# Altium footprint library GRC PCB library.PcbLib: 166 footprints (part 8 of 11)
Each footprint in its own frame and in the unit in brackets; x right, y up, seen from the top. Pads: shape width x height; smd on the part's side, far side on the other; paste and mask are expansions set on the pad; w line width, h text height; cw(c..) or ccw(c..) is an arc to the next point about the centre after c.
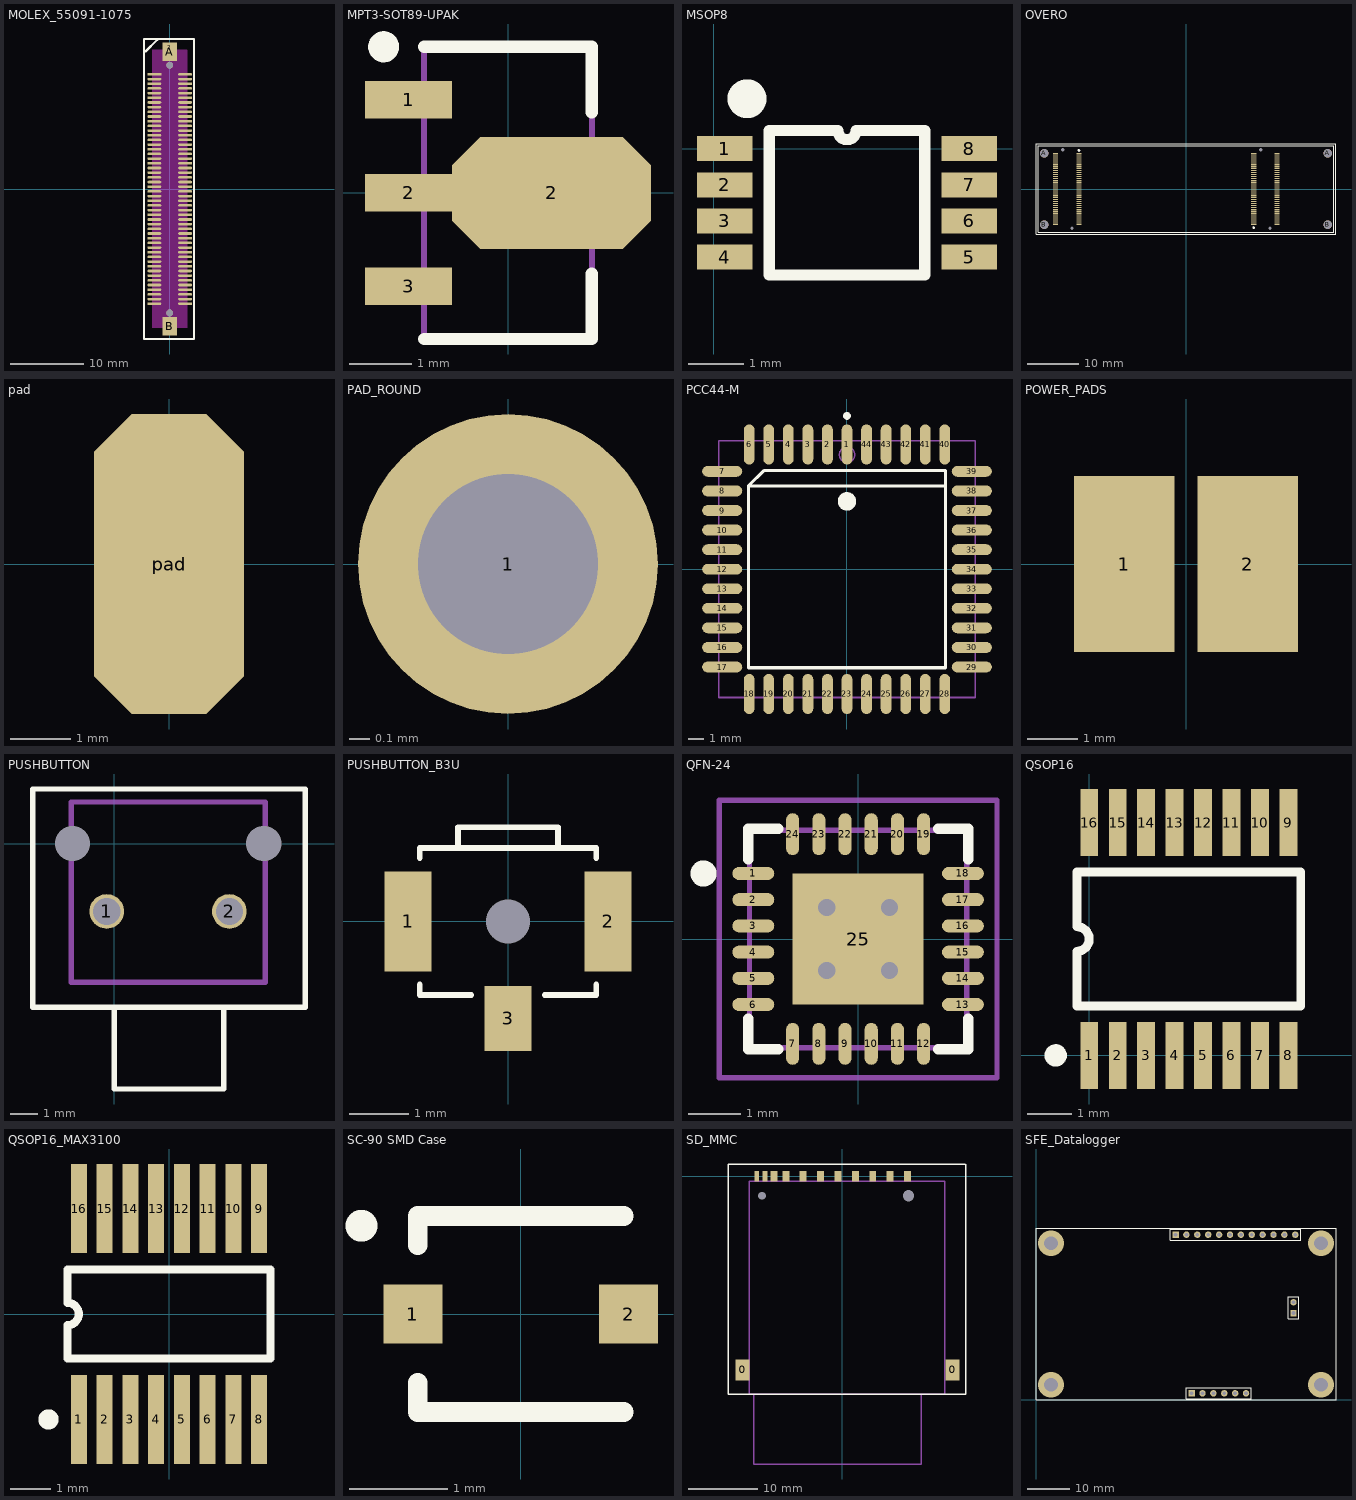
[diagram p7: the footprints below, top view; thin cyan lines are the x and y axes]

## MOLEX_55091-1075 [mm]
pads (105):
  rect 1.9x0.35 smd: 1(-2.1,15.557)
  oval 1.9x0.35 smd: 2(-2.1,14.922) 3(-2.1,14.287) 4(-2.1,13.652) 5(-2.1,13.018) 6(-2.1,12.383) 7(-2.1,11.747) 8(-2.1,11.112) 9(-2.1,10.477) 10(-2.1,9.842) 11(-2.1,9.207) 12(-2.1,8.572) 13(-2.1,7.938) 14(-2.1,7.302) 15(-2.1,6.667) 16(-2.1,6.032) 17(-2.1,5.397) 18(-2.1,4.763) 19(-2.1,4.127) 20(-2.1,3.492) 21(-2.1,2.857) 22(-2.1,2.222) 23(-2.1,1.587) 24(-2.1,0.953) 25(-2.1,0.318) 26(-2.1,-0.318) 27(-2.1,-0.953) 28(-2.1,-1.587) 29(-2.1,-2.222) 30(-2.1,-2.857) 31(-2.1,-3.492) 32(-2.1,-4.127) 33(-2.1,-4.763) 34(-2.1,-5.397) 35(-2.1,-6.032) 36(-2.1,-6.667) 37(-2.1,-7.302) 38(-2.1,-7.938) 39(-2.1,-8.572) 40(-2.1,-9.207) 41(-2.1,-9.842) 42(-2.1,-10.477) 43(-2.1,-11.112) 44(-2.1,-11.747) 45(-2.1,-12.383) 46(-2.1,-13.018) 47(-2.1,-13.652) 48(-2.1,-14.287) 49(-2.1,-14.922) 50(-2.1,-15.557) 51(2.1,-15.557) 52(2.1,-14.922) 53(2.1,-14.287) 54(2.1,-13.652) 55(2.1,-13.018) 56(2.1,-12.383) 57(2.1,-11.747) 58(2.1,-11.112) 59(2.1,-10.477) 60(2.1,-9.842) 61(2.1,-9.207) 62(2.1,-8.572) 63(2.1,-7.938) 64(2.1,-7.302) 65(2.1,-6.667) 66(2.1,-6.032) 67(2.1,-5.397) 68(2.1,-4.763) 69(2.1,-4.127) 70(2.1,-3.492) 71(2.1,-2.857) 72(2.1,-2.222) 73(2.1,-1.587) 74(2.1,-0.953) 75(2.1,-0.318) 76(2.1,0.318) 77(2.1,0.953) 78(2.1,1.587) 79(2.1,2.222) 80(2.1,2.857) 81(2.1,3.492) 82(2.1,4.127) 83(2.1,4.763) 84(2.1,5.397) 85(2.1,6.032) 86(2.1,6.667) 87(2.1,7.302) 88(2.1,7.938) 89(2.1,8.572) 90(2.1,9.207) 91(2.1,9.842) 92(2.1,10.477) 93(2.1,11.112) 94(2.1,11.747) 95(2.1,12.383) 96(2.1,13.018) 97(2.1,13.652) 98(2.1,14.287) 99(2.1,14.922) 100(2.1,15.557)
  rect 1x1 all layers, no hole: 2(0,19.26)
  round 0.9 hole 0.9: 3(0,-16.81) 3(0,16.81)
  rect 2x2.5 smd: A(0,18.61) B(0,-18.61)
Top Overlay:
  lines w0.305: -3.4,18.657 -3.3,18.657 -1.7,20.258 ; -3.5,-20.342 3.3,-20.342 3.3,20.358 -3.5,20.358 -3.5,-20.342
Keep-Out Layer:
  rectangle: -2.4,-18.842 2.4,18.958

## MPT3-SOT89-UPAK [mm] "SOT89/SC-62/MPT3, 3-Leads, Body 4.5x2.6mm (max), Pitch 1.50mm, Lead Span 3.6mm, IPC Medium Density"
height 1.6
pads (4):
  rect 1.4x0.6 smd: 1(-1.6,1.5) 2(-1.6,0) 3(-1.6,-1.5)
  oct 3.2x1.8 smd: 2(0.7,0)
Top Overlay:
  circle w0.25: c-2,2.35 r0.125
  lines w0.2: -1.35,-2.35 1.35,-2.35 1.35,-1.3 ; -1.35,2.35 1.35,2.35 1.35,1.3
Mechanical 13:
  lines w0.1: -1.35,-2.35 -1.35,2.35 1.35,2.35 1.35,-2.35 -1.35,-2.35

## MSOP8 [mm] "8 lead Plastic MSOP package"
height 0.9
pads (8):
  rect 1x0.45 smd: 1(0.2,0) 2(0.2,-0.65) 3(0.2,-1.3) 4(0.2,-1.95) 5(4.6,-1.95) 6(4.6,-1.3) 7(4.6,-0.65) 8(4.6,0)
Top Overlay:
  circle w0.5: c0.6,0.9 r0.1
  lines w0.2: 1,-2.275 1,0.325 2.238,0.325 ccw(c2.4,0.325) 2.562,0.325 3.8,0.325 3.8,-2.275 1,-2.275

## OVERO [mm] "Overo Earth support"
height 4.2
pads (148):
  rect 1x0.23 smd: 1(13.1,-6.8) 2(13.1,-6.4) 3(13.1,-6) 4(13.1,-5.6) 5(13.1,-5.2) 6(13.1,-4.8) 7(13.1,-4.4) 8(13.1,-4) 9(13.1,-3.6) 10(13.1,-3.2) 11(13.1,-2.8) 12(13.1,-2.4) 13(13.1,-2) 14(13.1,-1.6) 15(13.1,-1.2) 16(13.1,-0.8) 17(13.1,-0.4) 18(13.1,0) 19(13.1,0.4) 20(13.1,0.8) 21(13.1,1.2) 22(13.1,1.6) 23(13.1,2) 24(13.1,2.4) 25(13.1,2.8) 26(13.1,3.2) 27(13.1,3.6) 28(13.1,4) 29(13.1,4.4) 30(13.1,4.8) 31(13.1,5.2) 32(13.1,5.6) 33(13.1,6) 34(13.1,6.4) 35(13.1,6.8) 36(17.6,6.8) 36_(-25.2,-6.8) 37(17.6,6.4) 37_(-25.2,-6.4) 38(17.6,6) 38_(-25.2,-6) 39(17.6,5.6) 39_(-25.2,-5.6) 40(17.6,5.2) 40_(-25.2,-5.2) 41(17.6,4.8) 41_(-25.2,-4.8) 42(17.6,4.4) 42_(-25.2,-4.4) 43(17.6,4) 43_(-25.2,-4) 44(17.6,3.6) 44_(-25.2,-3.6) 45(17.6,3.2) 45_(-25.2,-3.2) 46(17.6,2.8) 46_(-25.2,-2.8) 47(17.6,2.4) 47_(-25.2,-2.4) 48(17.6,2) 48_(-25.2,-2) 49(17.6,1.6) 49_(-25.2,-1.6) 50(17.6,1.2) 50_(-25.2,-1.2) 51(17.6,0.8) 51_(-25.2,-0.8) 52(17.6,0.4) 52_(-25.2,-0.4) 53(17.6,0) 53_(-25.2,0) 54(17.6,-0.4) 54_(-25.2,0.4) 55(17.6,-0.8) 55_(-25.2,0.8) 56(17.6,-1.2) 56_(-25.2,1.2) 57(17.6,-1.6) 57_(-25.2,1.6) 58(17.6,-2) 58_(-25.2,2) 59(17.6,-2.4) 59_(-25.2,2.4) 60(17.6,-2.8) 60_(-25.2,2.8) 61(17.6,-3.2) 61_(-25.2,3.2) 62(17.6,-3.6) 62_(-25.2,3.6) 63(17.6,-4) 63_(-25.2,4) 64(17.6,-4.4) 64_(-25.2,4.4) 65(17.6,-4.8) 65_(-25.2,4.8) 66(17.6,-5.2) 66_(-25.2,5.2) 67(17.6,-5.6) 67_(-25.2,5.6) 68(17.6,-6) 68_(-25.2,6) 69(17.6,-6.4) 69_(-25.2,6.4) 70(17.6,-6.8) 70_(-25.2,6.8) _1(-20.7,6.8) _2(-20.7,6.4) _3(-20.7,6) _4(-20.7,5.6) _5(-20.7,5.2) _6(-20.7,4.8) _7(-20.7,4.4) _8(-20.7,4) _9(-20.7,3.6) _10(-20.7,3.2) _11(-20.7,2.8) _12(-20.7,2.4) _13(-20.7,2) _14(-20.7,1.6) _15(-20.7,1.2) _16(-20.7,0.8) _17(-20.7,0.4) _18(-20.7,0) _19(-20.7,-0.4) _20(-20.7,-0.8) _21(-20.7,-1.2) _22(-20.7,-1.6) _23(-20.7,-2) _24(-20.7,-2.4) _25(-20.7,-2.8) _26(-20.7,-3.2) _27(-20.7,-3.6) _28(-20.7,-4) _29(-20.7,-4.4) _30(-20.7,-4.8) _31(-20.7,-5.2) _32(-20.7,-5.6) _33(-20.7,-6) _34(-20.7,-6.4) _35(-20.7,-6.8)
  round 1.65 hole 1.65 unplated: A(-27.4,6.9) A(27.4,6.9) B(-27.4,-6.9) B(27.4,-6.9)
  round 0 hole 0.65 unplated: E(-23.85,7.6) F(-22.05,-7.6) G(14.45,7.6) H(16.25,-7.6)
Top Overlay:
  circle w0.25: c-20.7,7.465 r0.125
  circle w0.25: c13.1,-7.465 r0.125
  lines w0.127: -29,-8.75 -29,8.75 29,8.75 29,-8.75 -29,-8.75 ; -28.6,-8.4 -28.6,8.4 28.6,8.4 28.6,-8.4 -28.6,-8.4

## pad [mm]
pads (1):
  oct 2.5x5 smd: pad(0,0)

## PAD_ROUND [mm]
pads (1):
  round 1.5 hole 0.9: 1(0,0)

## PCC44-M [mm] "Leaded Chip Carrier, 44-Leads, Body 16.6x16.6mm, Pitch 1.27mm, IPC Low Density"
height 4.57
pads (44):
  oval 0.7x2.6 smd: 1(0,8.1) 2(-1.27,8.1) 3(-2.54,8.1) 4(-3.81,8.1) 5(-5.08,8.1) 6(-6.35,8.1) 18(-6.35,-8.1) 19(-5.08,-8.1) 20(-3.81,-8.1) 21(-2.54,-8.1) 22(-1.27,-8.1) 23(0,-8.1) 24(1.27,-8.1) 25(2.54,-8.1) 26(3.81,-8.1) 27(5.08,-8.1) 28(6.35,-8.1) 40(6.35,8.1) 41(5.08,8.1) 42(3.81,8.1) 43(2.54,8.1) 44(1.27,8.1)
  oval 2.6x0.7 smd: 7(-8.1,6.35) 8(-8.1,5.08) 9(-8.1,3.81) 10(-8.1,2.54) 11(-8.1,1.27) 12(-8.1,0) 13(-8.1,-1.27) 14(-8.1,-2.54) 15(-8.1,-3.81) 16(-8.1,-5.08) 17(-8.1,-6.35) 29(8.1,-6.35) 30(8.1,-5.08) 31(8.1,-3.81) 32(8.1,-2.54) 33(8.1,-1.27) 34(8.1,0) 35(8.1,1.27) 36(8.1,2.54) 37(8.1,3.81) 38(8.1,5.08) 39(8.1,6.35)
Top Overlay:
  circle w0.6: c0,4.4 r0.3
  circle w0.25: c0,9.95 r0.125
  lines w0.2: 6.4,5.4 -6.4,5.4 ; -6.4,5.4 -6.4,-6.4 6.4,-6.4 6.4,6.4 -5.4,6.4 -6.4,5.4
Mechanical 13:
  circle w0.1: c0,7.43 r0.5
  lines w0.1: -8.33,-8.33 8.33,-8.33 8.33,8.33 -8.33,8.33 -8.33,-8.33

## POWER_PADS [mm] "Power Supply Pads"
pads (2):
  rect 2x3.5 smd: 1(-1.225,0) 2(1.225,0)

## PUSHBUTTON [mil] "Tyco Micro Miniature PushButton Switch"
height 276
pads (4):
  round 0 hole 51 unplated paste+0: 0(-60.63,0) 0(215.37,0)
  round 50 hole 39: 1(-11.13,-98) 2(165.87,-98)
Top Overlay:
  lines w7.87: 0,-236.22 0,-354.33 157.48,-354.33 157.48,-236.22 ; -118.11,-236.22 275.59,-236.22 275.59,78.74 -118.11,78.74 -118.11,-236.22
Mechanical 13:
  lines w7.87: -62.63,-200 217.37,-200 217.37,60 -62.63,60 -62.63,-200

## PUSHBUTTON_B3U [mm] "Omron ultra small tactile switch"
height 1.2
pads (4):
  round 0 hole 0.75: 0(0,0)
  rect 0.8x1.7 smd: 1(-1.7,0) 2(1.7,0)
  rect 0.8x1.1 smd: 3(0,-1.65)
Top Overlay:
  lines w0.1: -1.5,-1.075 -1.5,-1.25 -0.625,-1.25 ; -1.5,1.075 -1.5,1.25 1.5,1.25 1.5,1.075 ; -0.85,1.25 -0.85,1.6 0.85,1.6 0.85,1.25 ; 0.625,-1.25 1.5,-1.25 1.5,-1.075

## QFN-24 [mm] "QFN, 24-Leads, Body 4.2x4.2mm (max), Pitch 0.50mm, IPC Medium Density"
height 0.8
pads (25):
  oval 0.8x0.25 smd: 1(-2,1.25) 2(-2,0.75) 3(-2,0.25) 4(-2,-0.25) 5(-2,-0.75) 6(-2,-1.25) 13(2,-1.25) 14(2,-0.75) 15(2,-0.25) 16(2,0.25) 17(2,0.75) 18(2,1.25)
  oval 0.25x0.8 smd: 7(-1.25,-2) 8(-0.75,-2) 9(-0.25,-2) 10(0.25,-2) 11(0.75,-2) 12(1.25,-2) 19(1.25,2) 20(0.75,2) 21(0.25,2) 22(-0.25,2) 23(-0.75,2) 24(-1.25,2)
  rect 2.5x2.5 smd: 25(0,0)
via 0.6,-0.6 diameter 0.66 hole 0.33
via -0.6,-0.6 diameter 0.66 hole 0.33
via 0.6,0.6 diameter 0.66 hole 0.33
via -0.6,0.6 diameter 0.66 hole 0.33
Top Overlay:
  circle w0.25: c-2.95,1.25 r0.125
  lines w0.2: -2.1,-1.525 -2.1,-2.1 -1.525,-2.1 ; -2.1,1.525 -2.1,2.1 -1.525,2.1 ; 1.525,-2.1 2.1,-2.1 2.1,-1.525 ; 1.525,2.1 2.1,2.1 2.1,1.525
Mechanical 13:
  lines w0.1: -2.075,-2.075 2.075,-2.075 2.075,2.075 -2.075,2.075 -2.075,-2.075
Mechanical 15:
  lines w0.1: -0.5,0 0.5,0 ; 0,-0.5 0,0.5 ; -2.65,-2.65 2.65,-2.65 2.65,2.65 -2.65,2.65 -2.65,-2.65
3D body: height 0.8, standoff 0.08, extent -2.075,-2.075 2.075,2.075

## QSOP16 [mm] "SSOP; 16 Leads; Body Width 3.9 mm; Pitch 0.635 mm"
height 1.76
pads (16):
  rect 0.4x1.5 smd: 1(0,0) 2(0.635,0) 3(1.27,0) 4(1.905,0) 5(2.54,0) 6(3.175,0) 7(3.81,0) 8(4.445,0) 9(4.445,5.2) 10(3.81,5.2) 11(3.175,5.2) 12(2.54,5.2) 13(1.905,5.2) 14(1.27,5.2) 15(0.635,5.2) 16(0,5.2)
Top Overlay:
  circle w0.25: c-0.75,0 r0.125
  lines w0.2: -0.278,2.325 ccw(c-0.278,2.6) -0.278,2.875 -0.278,4.1 4.723,4.1 4.723,1.1 -0.277,1.1 -0.279,2.325

## QSOP16_MAX3100 [mm] "SSOP; 16 Leads; Body Width 3.9 mm; Pitch 0.635 mm"
height 1.76
pads (16):
  rect 0.4x2.2 smd: 1(-2.222,-2.6) 2(-1.587,-2.6) 3(-0.953,-2.6) 4(-0.318,-2.6) 5(0.318,-2.6) 6(0.953,-2.6) 7(1.587,-2.6) 8(2.222,-2.6) 9(2.222,2.6) 10(1.587,2.6) 11(0.953,2.6) 12(0.318,2.6) 13(-0.318,2.6) 14(-0.953,2.6) 15(-1.587,2.6) 16(-2.222,2.6)
Top Overlay:
  circle w0.25: c-2.973,-2.6 r0.125
  lines w0.2: -2.5,-1.1 -2.501,-0.275 ccw(c-2.5,0) -2.5,0.275 -2.5,1.1 2.5,1.1 2.5,-1.1 -2.5,-1.1

## SC-90 SMD Case [mm] "SC-90 or SOD323F Surface Mount Package"
height 0.8
pads (2):
  rect 0.6x0.6 smd: 1(-1.1,0) 2(1.1,0)
Top Overlay:
  circle w0.254: c-1.625,0.9 r0.035
  lines w0.2: -1.05,-0.7 -1.05,-1 1.05,-1 ; -1.05,0.7 -1.05,1 1.05,1

## SD_MMC [mm] "SD_MMC socket"
height 3.1
pads (15):
  rect 2x3 smd: 0(-14.28,-27.75) 0(15.82,-27.75)
  rect 1x1.5 smd: 1(6.88,0) 2(4.38,0) 3(1.88,0) 4(-0.62,0) 5(-3.12,0) 6(-5.62,0) 7(-8.05,0) 8(-9.75,0) 9(9.38,0)
  rect 0.7x1.5 smd: C(-11.05,0) S(-12.25,0)
  round 0.1 hole 1.1 unplated: ""(-11.5,-2.8)
  round 0.1 hole 1.6 unplated: ""(9.5,-2.8)
Top Overlay:
  lines w0.2: 17.67,1.75 -16.3,1.75 -16.31,1.74 -16.31,-31.25 17.68,-31.25 ; 17.69,-31.25 17.69,1.75
Mechanical 13:
  lines w0.2: -12.7,-31.25 -12.7,-41.25 11.3,-41.25 11.3,-31.25 ; -13.31,-31.25 14.69,-31.25 14.69,-0.75 -13.31,-0.75 -13.31,-31.25
3D body: height 0, standoff 0, extent -13.31,-31.25 14.69,-0.75

## SFE_Datalogger [mm]
pads (20):
  round 1.5 hole 0.9: 1(60.5,38.5) 2(57.96,38.5) 3(55.42,38.5) 4(52.88,38.5) 5(50.34,38.5) 6(47.8,38.5) 7(45.26,38.5) 8(42.72,38.5) 9(40.18,38.5) 10(37.64,38.5) 11(35.1,38.5) 13(49.01,1.5) 14(46.47,1.5) 15(43.93,1.5) 16(41.39,1.5) 17(38.85,1.5) 20(60.085,22.74)
  rect 1.5x1.5 hole 0.9: 12(32.56,38.5) 18(36.31,1.5) 19(60.085,20.2)
via 3.5,36.5 diameter 6 hole 3.2
via 66.5,36.5 diameter 6 hole 3.2
via 66.5,3.5 diameter 6 hole 3.2
via 3.5,3.5 diameter 6 hole 3.2
Top Overlay:
  lines w0.2: 0,0 0,40 70,40 70,0 0,0 ; 31.29,37.23 31.29,39.77 33.195,39.77 61.77,39.77 61.77,37.23 31.29,37.23 ; 35.04,0.23 35.04,2.77 50.28,2.77 50.28,0.23 35.04,0.23 ; 58.815,18.93 61.355,18.93 61.355,24.01 58.815,24.01 58.815,18.93
Multi-Layer:
  text "NOT CHECKED" at 13.3,13.7 h4